# Altium integrated library Infineon RF & Wireless Control.IntLib: 329 symbols (part 10 of 11)
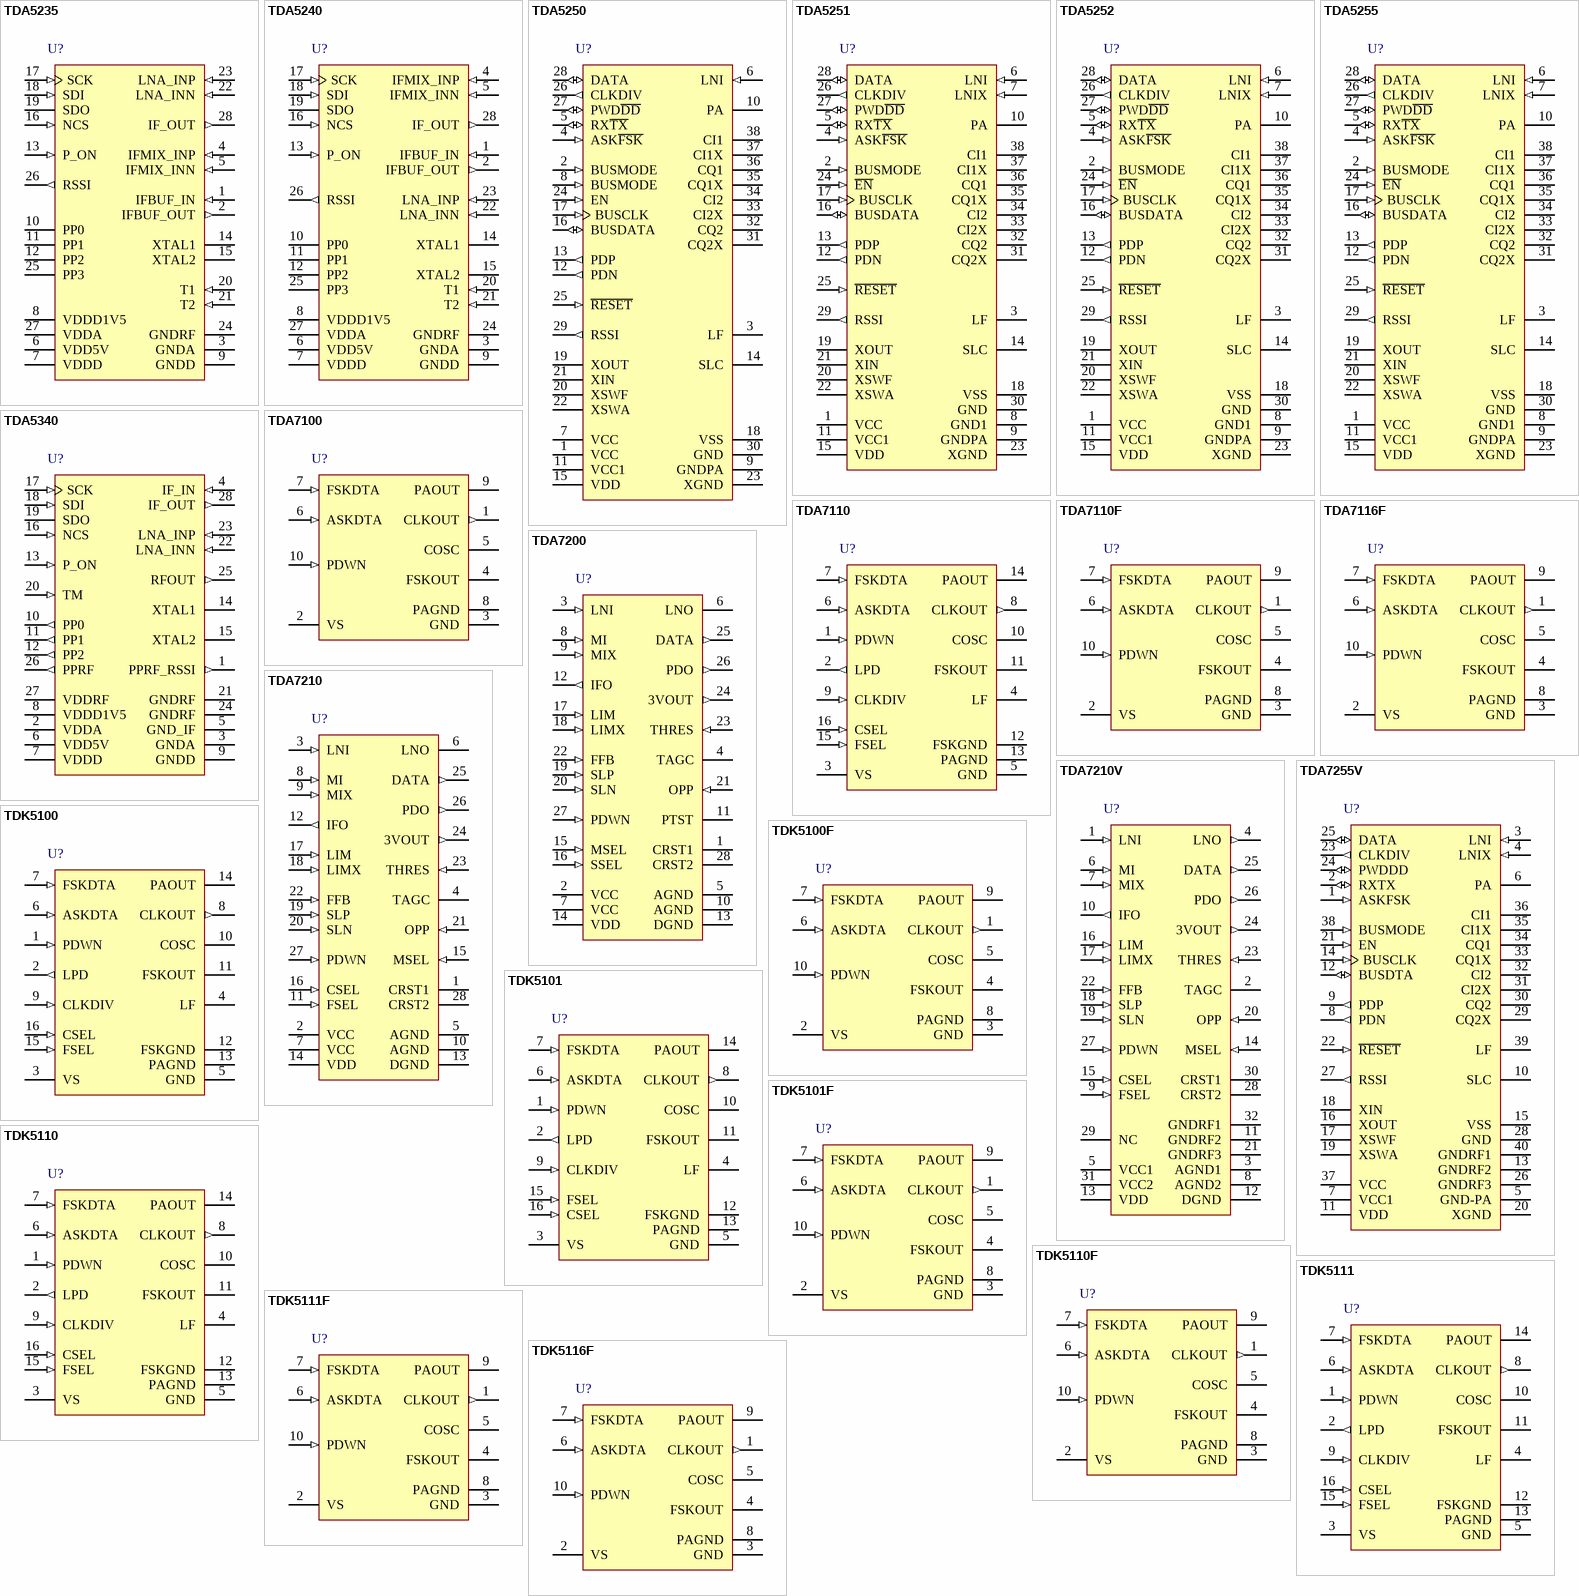
[diagram p18: symbols TDA5235 to TDK5116F]

## TDA5250
designator U?
868 MHz ASK / FSK Wireless Transceiver, -40 to 85 degC, PG-TSSOP-38, Green; Manufacturer: Infineon; PartNumber: TDA5250; Channel Requirements per Band: Single Channel; Frequency Band: 868 MHz; Green: yes; Transmit Power (at 3V): 9 dBm; DatasheetVersion: Rev. 1.7; PackageReference: PG-TSSOP-38; PackageDescription: 38-Pin Plastic (Green) Thin Shrink Small Outline Package, 9.7 x 4.4 mm Body, 0.5 mm Pitch; Supplier 1: Mouser; Supplier Part Number 1: 726-TDA5250; Supplier 2: Digi-Key; Supplier Part Number 2: TDA5250INTR-ND; Supplier 3: Digi-Key; Supplier Part Number 3: TDA5250INCT-ND; Supplier 4: Digi-Key; Supplier Part Number 4: TDA5250INDKR-ND; Group: Transceiver; Halogen-free: yes; Modulation Type: ASK / FSK; Mounting Technology: Surface Mount; ComponentLink1Description: Manufacturer URL; ComponentLink1URL: http://www.infineon.com/; ComponentLink2Description: Datasheet; ComponentLink2URL: http://www.infineon.com/dgdl/TDA5250_DS_V1.7.pdf?folderId=db3a30431689f4420116a096e1db033e&fileId=db3a3043191a246301192e72a7312c03&location=en.Products.Sensors___Wireless_Control.Wireless_Control.Transceiver.DATASHEET.TDA5250_DS_V1.7.pdf; ComponentLink3Description: Package Specification; ComponentLink3URL: http://www.infineon.com/cms/packages/SMD_-_Surface_Mounted_Devices/P-PG-TSSOP/P-PG-TSSOP-38-3.html?__locale=en
footprint INF-PG-TSSOP-38_N (SOP, 38-Leads, Body 9.7x4.4 mm, Pitch 0.5 mm, IPC Medium Density)
footprint INF-PG-TSSOP-38_L (SOP, 38-Leads, Body 9.7x4.4 mm, Pitch 0.5 mm, IPC High Density)
footprint INF-PG-TSSOP-38_M (SOP, 38-Leads, Body 9.7x4.4 mm, Pitch 0.5 mm, IPC Low Density)
pins: 1 VCC (power) "Analog supply(antiparallel diodes between VCC,VCC1,VDD )", 2 BUSMODE (in) "Bus mode selection (I2C/3 wire bus mode selection)", 3 LF "Loop filter and VCO control voltage", 4 ASK~{FSK} (in) "ASK/FSK- mode switch input", 5 RX~{TX} (io) "RX/TX-mode switch input/output", 6 LNI (in) "RF input to differential Low Noise(LNA)", 7 VCC (power) "Analog supply(antiparallel diodes between VCC,VCC1,VDD )", 8 BUSMODE (in) "Bus mode selection (I2C/3 wire bus mode selection)", 9 GNDPA (power) "Ground return for PA output stage", 10 PA (oc) "PA output stage", 11 VCC1 (power) "Supply for LNA and PA", 12 PDN (out) "Output of the negative peak detector", 13 PDP (out) "Output of the positive peakdetector", 14 SLC "Slicer level for the data slicer", 15 VDD (power) "Digital supply", 16 BUSDATA (io) "Bus data in/output", 17 BUSCLK (in) "Bus clock input", 18 VSS (power) "Ground for digital section", 19 XOUT "Crystal oscillator output,can also be used as external reference frequency input", 20 XSWF "FSK modulation switch", 21 XIN, 22 XSWA "ASK modulation/FSK center frequency switch", 23 XGND (power) "Crystal oscillator ground return", 24 EN (in) "3-wire bus enable input", 25 ~{RESET} (in) "Reset of the entire system(to default values),active low", 26 CLKDIV (out) "Clock output", 27 PWD~{DD} (io) "Power down input(acive  high),data detect output(active low)", 28 DATA (io) "TX Data input,RX data output(RX powerdown: pin 28 @ GND)", 29 RSSI (out) "RSSI output", 30 GND (power) "Analog ground", 31 CQ2X "Pin for external capacitor Q-channel stage 2", 32 CQ2 "Q-channel stage 2", 33 CI2X "I-channel stage 2", 34 CI2 "I-channel stage 2", 35 CQ1X "Q-channel stage 1", 36 CQ1 "Q-channel stage 1", 37 CI1X "I-channel stage 1", 38 CI1 "I-channel stage 1"

## TDA5251
designator U?
315 MHz ASK / FSK Wireless Transceiver, -40 to 85 degC, PG-TSSOP-38, Green; Manufacturer: Infineon; PartNumber: TDA5251; Channel Requirements per Band: Single Channel; Frequency Band: 315 MHz; Green: yes; Transmit Power (at 3V): 9 dBm; DatasheetVersion: Rev. 1.1; PackageReference: PG-TSSOP-38; PackageDescription: 38-Pin Plastic (Green) Thin Shrink Small Outline Package, 9.7 x 4.4 mm Body, 0.5 mm Pitch; Supplier 1: Mouser; Supplier Part Number 1: 726-TDA5251; Supplier 2: Digi-Key; Supplier Part Number 2: TDA5251INTR-ND; Supplier 3: Digi-Key; Supplier Part Number 3: TDA5251INCT-ND; Supplier 4: Digi-Key; Supplier Part Number 4: TDA5251INDKR-ND; Group: Transceiver; Halogen-free: yes; Modulation Type: ASK / FSK; Mounting Technology: Surface Mount; ComponentLink1Description: Manufacturer URL; ComponentLink1URL: http://www.infineon.com/; ComponentLink2Description: Datasheet; ComponentLink2URL: http://www.infineon.com/dgdl/TDA5251_DS_V1.1.pdf?folderId=db3a30431689f4420116a096e1db033e&fileId=db3a3043191a246301192e7781502c13&location=en.Products.Sensors___Wireless_Control.Wireless_Control.Transceiver.DATASHEET.TDA5251_DS_V1.1.pdf; ComponentLink3Description: Package Specification; ComponentLink3URL: http://www.infineon.com/cms/packages/SMD_-_Surface_Mounted_Devices/P-PG-TSSOP/P-PG-TSSOP-38-3.html?__locale=en
footprint INF-PG-TSSOP-38_N (SOP, 38-Leads, Body 9.7x4.4 mm, Pitch 0.5 mm, IPC Medium Density)
footprint INF-PG-TSSOP-38_L (SOP, 38-Leads, Body 9.7x4.4 mm, Pitch 0.5 mm, IPC High Density)
footprint INF-PG-TSSOP-38_M (SOP, 38-Leads, Body 9.7x4.4 mm, Pitch 0.5 mm, IPC Low Density)
pins: 1 VCC (power) "Analog supply(antiparallel diodes between VCC,VCC1,VDD)", 2 BUSMODE (in) "Bus mode selection(I2C/3 wire bus mode selection)", 3 LF "Loop filter and VCO control voltage", 4 ASK~{FSK} (in) "ASK/FSK-mode switch input", 5 RX~{TX} (io) "RX/TX-mode switch input/output", 6 LNI (in) "RF input to differential Low Noise Amplifier(LNA)", 7 LNIX (in) "Complementary RF input to differential LNA", 8 GND1 (power) "Ground return for LNA and Power Amplifier(PA) dirver stage", 9 GNDPA (power) "Ground return for PA output stage", 10 PA (oc) "PA output stage", 11 VCC1 (power) "Supply for LNA and PA", 12 PDN (out) "Output of the negative peakdetector", 13 PDP (out) "Output of the positive peakdetector", 14 SLC "Slicer level for the data slicer", 15 VDD (power) "Digital supply", 16 BUSDATA (io) "Bus data in/output", 17 BUSCLK (in) "Bus clock input", 18 VSS (power) "Ground for digital section", 19 XOUT "Crystal oscillator output,can also be used as external reference frequency input", 20 XSWF "FSK modulation switch", 21 XIN, 22 XSWA "ASK modulation/FSK center frequency switch", 23 XGND (power) "Crystal oscillator ground return", 24 ~{EN} (in) "3-wire bus enable input", 25 ~{RESET} (in) "Reset of the entire system (to default values),active low", 26 CLKDIV (out) "Clock output", 27 PWD~{DD} (io) "Power Down input(active high),data detect output(active low)", 28 DATA (io) "TX Data input,RX data output(RX powerdown:pin 28 @ GND)", 29 RSSI (out) "RSSI output", 30 GND (power) "Analog ground", 31 CQ2X "Pin for external Capacitor Q-channel,stage 2", 32 CQ2 "Q-channel,stage 2", 33 CI2X "I-channel,stage 2", 34 CI2 "I-channel,stage 2", 35 CQ1X "Q-channel,stage 1", 36 CQ1 "Q-channel,stage 1", 37 CI1X "I-channel,stage 1", 38 CI1 "I-channel,stage 1"

## TDA5252
designator U?
915 MHz ASK / FSK Wireless Transceiver, -40 to 85 degC, PG-TSSOP-38, Green; Manufacturer: Infineon; PartNumber: TDA5252; Channel Requirements per Band: Single Channel; Frequency Band: 915 MHz; Green: yes; Transmit Power (at 3V): 9 dBm; DatasheetVersion: Rev. 1.1; PackageReference: PG-TSSOP-38; PackageDescription: 38-Pin Plastic (Green) Thin Shrink Small Outline Package, 9.7 x 4.4 mm Body, 0.5 mm Pitch; Supplier 1: Mouser; Supplier Part Number 1: 726-TDA5252; Supplier 2: Digi-Key; Supplier Part Number 2: TDA5252INTR-ND; Supplier 3: Digi-Key; Supplier Part Number 3: TDA5252INCT-ND; Supplier 4: Digi-Key; Supplier Part Number 4: TDA5252INDKR-ND; Group: Transceiver; Halogen-free: yes; Modulation Type: ASK / FSK; Mounting Technology: Surface Mount; ComponentLink1Description: Manufacturer URL; ComponentLink1URL: http://www.infineon.com/; ComponentLink2Description: Datasheet; ComponentLink2URL: http://www.infineon.com/dgdl/TDA5252_DS_V1.1.pdf?folderId=db3a30431689f4420116a096e1db033e&fileId=db3a3043191a246301192e79e8282c1b&location=en.Products.Sensors___Wireless_Control.Wireless_Control.Transceiver.DATASHEET.TDA5252_DS_V1.1.pdf; ComponentLink3Description: Package Specification; ComponentLink3URL: http://www.infineon.com/cms/packages/SMD_-_Surface_Mounted_Devices/P-PG-TSSOP/P-PG-TSSOP-38-3.html?__locale=en
footprint INF-PG-TSSOP-38_N (SOP, 38-Leads, Body 9.7x4.4 mm, Pitch 0.5 mm, IPC Medium Density)
footprint INF-PG-TSSOP-38_L (SOP, 38-Leads, Body 9.7x4.4 mm, Pitch 0.5 mm, IPC High Density)
footprint INF-PG-TSSOP-38_M (SOP, 38-Leads, Body 9.7x4.4 mm, Pitch 0.5 mm, IPC Low Density)
pins: 1 VCC (power) "Analog supply (antiparallel diodes between VCC, VCC1, VDD).", 2 BUSMODE (in) "Bus mode selection (I2C/3 wire bus mode selection).", 3 LF "Loop filter and VCO control voltage.", 4 ASK~{FSK} (in) "ASK/FSK-mode switch input.", 5 RX~{TX} (io) "RX/TX-mode switch input/output", 6 LNI (in) "RF input to differential Low Noise Amplifier (LNA).", 7 LNIX (in) "Complementary RF input to differential LNA.", 8 GND1 (power) "Ground return for LNA and Power Amplifier (PA) driver stage.", 9 GNDPA (power) "Ground return for PA output stage.", 10 PA (oc) "PA output stage.", 11 VCC1 (power) "Supply for LNA and PA.", 12 PDN (out) "Outpur of the negative peak detector.", 13 PDP (out) "Output of the positive peakdetector.", 14 SLC "Slicer level for the data slicer.", 15 VDD (power) "Digital supply.", 16 BUSDATA (io) "Bus data in/output.", 17 BUSCLK (in) "Bus clock input.", 18 VSS (power) "Ground for digital section.", 19 XOUT "Crystal oscillator output, can also be used as external reference frequency input.", 20 XSWF "FSK modulation switch.", 21 XIN "FSK modulation switch.", 22 XSWA "ASK modulation/FSK center frequency switch.", 23 XGND (power) "Crystal oscillator ground return.", 24 ~{EN} (in) "3-wire bus enable input.", 25 ~{RESET} (in) "Reset of the entire system (to default values), active low.", 26 CLKDIV (out) "Clock output.", 27 PWD~{DD} (io) "Power Down input (active high), data detect output (active low).", 28 DATA (io) "TX Data input, RX data output (RX powerdown: pin 28 @ GND).", 29 RSSI (out) "RSSI output.", 30 GND (power) "Analog ground.", 31 CQ2X "Pin for external Capacitor Q-channel, stage 2.", 32 CQ2 "Q-channel, stage 2", 33 CI2X "I-channel, stage 2", 34 CI2 "I-channel, stage 1", 35 CQ1X "Q-channel, stage 1", 36 CQ1 "Q-channel, stage 1", 37 CI1X "I-channel, stage 1", 38 CI1 "I-channel, stage 1"

## TDA5255
designator U?
434 MHz ASK / FSK Wireless Transceiver, -40 to 85 degC, PG-TSSOP-38, Green; Manufacturer: Infineon; PartNumber: TDA5255; Channel Requirements per Band: Single Channel; Frequency Band: 434 MHz; Green: yes; Transmit Power (at 3V): 9 dBm; DatasheetVersion: Rev. 1.2; PackageReference: PG-TSSOP-38; PackageDescription: 38-Pin Plastic (Green) Thin Shrink Small Outline Package, 9.7 x 4.4 mm Body, 0.5 mm Pitch; Supplier 1: Mouser; Supplier Part Number 1: 726-TDA5255; Supplier 2: Digi-Key; Supplier Part Number 2: TDA5255INTR-ND; Supplier 3: Digi-Key; Supplier Part Number 3: TDA5255INCT-ND; Supplier 4: Digi-Key; Supplier Part Number 4: TDA5255INDKR-ND; Group: Transceiver; Halogen-free: yes; Modulation Type: ASK / FSK; Mounting Technology: Surface Mount; ComponentLink1Description: Manufacturer URL; ComponentLink1URL: http://www.infineon.com/; ComponentLink2Description: Datasheet; ComponentLink2URL: http://www.infineon.com/dgdl/TDA5255_V1+21.pdf?folderId=db3a30431689f4420116a096e1db033e&fileId=db3a304317a7483601181d4f63db1753; ComponentLink3Description: Package Specification; ComponentLink3URL: http://www.infineon.com/cms/packages/SMD_-_Surface_Mounted_Devices/P-PG-TSSOP/P-PG-TSSOP-38-3.html?__locale=en
footprint INF-PG-TSSOP-38_N (SOP, 38-Leads, Body 9.7x4.4 mm, Pitch 0.5 mm, IPC Medium Density)
footprint INF-PG-TSSOP-38_L (SOP, 38-Leads, Body 9.7x4.4 mm, Pitch 0.5 mm, IPC High Density)
footprint INF-PG-TSSOP-38_M (SOP, 38-Leads, Body 9.7x4.4 mm, Pitch 0.5 mm, IPC Low Density)
pins: 1 VCC (power) "Analog supply (antiparallel diodes between VCC,VCC1,VDD)", 2 BUSMODE (in) "Bus mode selection (I2C/3 wire bus mode selection)", 3 LF "Loop filter and VCO control voltage", 4 ASK~{FSK} (in) "ASK/FSK- mode switch input", 5 RX~{TX} (io) "RX/TX-mode switch input/output", 6 LNI (in) "RF input to differential Low Noise Amplifier (LNA)", 7 LNIX (in) "Complementary RF input to differential LNA", 8 GND1 (power) "Ground return for LNA and Power Amplifier (PA) dirver stage", 9 GNDPA (power) "Ground return for PA output stage", 10 PA (oc) "PA output stage", 11 VCC1 (power) "Supply for LNA and  PA", 12 PDN (out) "Output for the negative peak detector", 13 PDP (out) "Output for the positive peak detector", 14 SLC "Slicer level for the data slicer", 15 VDD (power) "Digital supply; A 10ohm serial resistor in the VDD supply line is strongly recommended; see also Section 4.4", 16 BUSDATA (io) "Bus data in/output", 17 BUSCLK (in) "Bus clock input", 18 VSS (power) "Ground for digital section", 19 XOUT "Crystal oscillator output, can also be used as external reference frequency input", 20 XSWF "FSK modulation switch", 21 XIN, 22 XSWA "ASK modulation/FSK center frequency switch", 23 XGND (power) "Crystal oscillator ground return", 24 ~{EN} (in) "3-wire bus enable input", 25 ~{RESET} (in) "Reset of the entire system (to default values), active low", 26 CLKDIV (out) "Clock output", 27 PWD~{DD} (io) "Power Down input (active high), data detect output (active low)", 28 DATA (io) "TX Data input,RX data output (RX powerdown: pin 28 @ GND)", 29 RSSI (out) "RSSI output", 30 GND (power) "Analog ground", 31 CQ2X "Pin for external Capacitor Q-channel,stage 2", 32 CQ2 "Q-channel,stage 2", 33 CI2X "I-channel,stage 2", 34 CI2 "I-channel,stage 2", 35 CQ1X "Q-channel,stage 1", 36 CQ1 "Q-channel,stage 1", 37 CI1X "I-channel,stage 1", 38 CI1 "I-channel,stage 1"

## TDA5340
designator U?
High Sensitivity Multi-Channel Transceiver, -40 to 110 degC, PG-TSSOP-28, Green; Manufacturer: Infineon; PartNumber: TDA5340; Frequency Band: 315 MHz, 434 MHz, 470 MHz, 868 MHz, 915 MHz, 959 MHz; Green: yes; Group: SmartLEWIS TRX to Multi-channel TRX with Digital Baseband Processing; Modulation Type: ASK / FSK / GSFK; Transmit Power (at 3V): 14 dBm; DatasheetVersion: Rev. 1.2; PackageReference: PG-TSSOP-28; PackageDescription: 28-Pin Plastic (Green) Thin Shrink Small Outline Package, 9.7 x 4.4 mm Body, 0.65 mm Pitch; Channel Requirements per Band: Multi-Channel; Halogen-free: yes; Mounting Technology: Surface Mount; ComponentLink1Description: Manufacturer URL; ComponentLink1URL: http://www.infineon.com/; ComponentLink2Description: Datasheet; ComponentLink2URL: http://www.infineon.com/dgdl/TDA5340_DS_V1.2.pdf?folderId=db3a3043191a246301192dd387ea2ae3&fileId=db3a30433408410401340ea9a6a4300a; ComponentLink3Description: Package Specification; ComponentLink3URL: http://www.infineon.com/cms/packages/SMD_-_Surface_Mounted_Devices/P-PG-TSSOP/P-PG-TSSOP-28-1x_-4x_-8.html?__locale=en
footprint INF-PG-TSSOP-28_N (SOP, 28-Leads, Body 9.7x4.4 mm, Pitch 0.65 mm, IPC Medium Density)
footprint INF-PG-TSSOP-28_L (SOP, 28-Leads, Body 9.7x4.4 mm, Pitch 0.65 mm, IPC High Density)
footprint INF-PG-TSSOP-28_M (SOP, 28-Leads, Body 9.7x4.4 mm, Pitch 0.65 mm, IPC Low Density)
pins: 1 PPRF_RSSI (out) "Analog output Digital output with weak driver capability, always in 3V domain CLK_OUT, RX_RUN, NINT, ANT_EXTSW1, ANT_EXTSW1, DATA, DATA_MATCHFIL, CH_DATA, CH_STR, RXD, RXSTR, TXSTR and TRISTATE are programmable via SFR (See Datasheet)", 2 VDDA (power) "Analog input Analog supply", 3 GNDA (power) "Analog Ground", 4 IF_IN (in) "Analog input IF mixer input", 5 GND_IF (power) "Analog Ground", 6 VDD5V (power) "Analog input 5 Volt supply input", 7 VDDD (power) "Analog input digital supply input", 8 VDDD1V5 (power) "Analog output 1.5V regulator", 9 GNDD (power) "Digital ground", 10 PP0 (out) "Digital output CLK_OUT, RX_RUN, NINT, ANT_EXTSW1, ANT_EXTSW1, DATA, DATA_MATCHFIL, CH_DATA, CH_STR, RXD, RXSTR, TXSTR and TRISTATE are programmable via SFR default: CLK_OUT", 11 PP1 (out) "Digital output CLK_OUT, RX_RUN, NINT, ANT_EXTSW1, ANT_EXTSW1, DATA, DATA_MATCHFIL, CH_DATA, CH_STR, RXD, RXSTR, TXSTR and TRISTATE are programmable via SFR default: DATA", 12 PP2 (out) "Digital output CLK_OUT, RX_RUN, NINT, ANT_EXTSW1, ANT_EXTSW1, DATA, DATA_MATCHFIL, CH_DATA, CH_STR, RXD, RXSTR, TXSTR and TRISTATE are programmable via SFR default: NINT", 13 P_ON (in) "Digital input power-on reset", 14 XTAL1 "Analog input crystal oscillator input", 15 XTAL2 "Analog output crystal oscillator output", 16 NCS (in) "Digital input SPI Not Chip select", 17 SCK (in) "Digital input SPI clock", 18 SDI (in) "Digital input SPI data in", 19 SDO (hiz) "Digital output SPI data out", 20 TM (in) "Digital input connect to digital ground", 21 GNDRF (power) "Analog ground", 22 LNA_INN (in) "Analog input - RF input", 23 LNA_INP (in) "Analog input +RF input", 24 GNDRF (power) "Analog ground", 25 RFOUT (out) "Analog output power amplifier output", 26 PPRF (out) "Digital output always in 3V domain CLK_OUT, RX_RUN, NINT, ANT_EXTSW1, ANT_EXTSW1, DATA, DATA_MATCHFIL, CH_DATA, CH_STR, RXD, RXSTR, TXSTR and TRISTATE are programmable via SFR default: TRISTATE", 27 VDDRF (power) "Analog input RF supply", 28 IF_OUT (out) "Analog output Mixer output"

## TDA7100
designator U?
434 MHz ASK / FSK Transmitter, -20 to 70 degC, PG-TSSOP-10, Green; Manufacturer: Infineon; PartNumber: TDA7100; Channel Requirements per Band: Single Channel; Frequency Band: 434 MHz; Green: yes; Transmit Power (at 3V): 5 dBm; DatasheetVersion: Rev. 1.0; PackageReference: PG-TSSOP-10; PackageDescription: 10-Pin Plastic (Green) Thin Shrink Small Outline Package, 3 x 3 mm Body, 0.5 mm Pitch; Supplier 1: Mouser; Supplier Part Number 1: 726-TDA7100; Supplier 2: Digi-Key; Supplier Part Number 2: TDA7100INTR-ND; Supplier 3: Digi-Key; Supplier Part Number 3: TDA7100INCT-ND; Supplier 4: Digi-Key; Supplier Part Number 4: TDA7100INDKR-ND; Group: Transmitter; Modulation Type: ASK / FSK; Mounting Technology: Surface Mount; ComponentLink1Description: Manufacturer URL; ComponentLink1URL: http://www.infineon.com/; ComponentLink2Description: Datasheet; ComponentLink2URL: http://www.infineon.com/dgdl/TDA7100_V1.pdf?folderId=db3a304313d846880113dd9752130268&fileId=db3a30431400ef68011402db35860081&location=en.Products.Sensors___Wireless_Control.Wireless_Control.Transmitter.DATASHEET.TDA7100_V1.pdf; ComponentLink3Description: Package Specification; ComponentLink3URL: http://www.infineon.com/cms/packages/SMD_-_Surface_Mounted_Devices/P-PG-TSSOP/P-PG-TSSOP-10-1x_-3x_-5.html?__locale=en
footprint INF-PG-TSSOP-10_N (SOP, 10-Leads, Body 3x3 mm, Pitch 0.5 mm, IPC Medium Density)
footprint INF-PG-TSSOP-10_L (SOP, 10-Leads, Body 3x3 mm, Pitch 0.5 mm, IPC High Density)
footprint INF-PG-TSSOP-10_M (SOP, 10-Leads, Body 3x3 mm, Pitch 0.5 mm, IPC Low Density)
pins: 1 CLKOUT (out) "Clock output to supply an external device. An external pull-up resistor has to be added in accordance to the driving requirements of the external device. The clock frequency is 847.5 kHz.", 2 VS (power) "This pin is the positive supply of the transmitter electronics. An RF bypass capacitor should be connected directly to this pin and returned to GND (pin 3) as short as possible.", 3 GND (power) "General ground connection.", 4 FSKOUT (hiz) "This pin is connected to a switch to GND (pin 3). The switch is closed when the signal at FSKDTA (pin 7) is in a logic low state. The switch is open when the signal at FSKDTA (pin 7) is in a logic hifh state. FSKOUT can (See Datasheet)", 5 COSC "This pin is connected to the reference oscillator circuit. The reference oscillator is working as a negative impedance converter. It presents a negative resistance in series to an inductance at the COSC pin.", 6 ASKDTA (in) "Digital amplitude modulation can be imparted to the Power Amplifier through this pin. A logic high (ASKDTA > 1.5 V or open) enables the Power Amplifier. A logic low (ASKDTA < 0.5 V) disables the Power Amplifier.", 7 FSKDTA (in) "Digital frequency modulation can be imparted to the Xtal Oscillator by this pin. The VCO-frequency varies in accordance to the frequency of the reference oscillator. A logic high (FSKDTA > 1.5 V or open) sets the FSK switch (See Datasheet)", 8 PAGND (power) "Ground connection of the power amplifier. The RF ground return path of the power amplifier output PAOUT (pin 9) has to be concentrated to this pin.", 9 PAOUT (oc) "RF output pin of the transmitter. A DC path to the positive supply VS has to be supplied by the antenna matching network.", 10 PDWN (in) "Disable pin for the complete transmitter circuit. A logic low (PDWN < 0.7 V) turns off all transmitter fuctions. PDWN input will be pulled up by 40 uA internally by either setting FSKDTA or ASKDTA to a logic high-state."

## TDA7110
designator U?
868 / 433 MHz ASK / FSK Transmitter, -40 to 85 degC, PG-TSSOP-16, Green; Manufacturer: Infineon; PartNumber: TDA7110; Channel Requirements per Band: Single Channel; Frequency Band: 434 MHz, 868 MHz; Green: yes; Transmit Power (at 3V): 10 dBm; DatasheetVersion: Rev. 1.0; PackageReference: PG-TSSOP-16; PackageDescription: 16-Pin Plastic (Green) Thin Shrink Small Outline Package, 5 x 4.4 mm Body, 0.65 mm Pitch; Supplier 1: Mouser; Supplier Part Number 1: 726-TDA7110; Supplier 2: Digi-Key; Supplier Part Number 2: TDA7110INTR-ND; Supplier 3: Digi-Key; Supplier Part Number 3: TDA7110INCT-ND; Supplier 4: Digi-Key; Supplier Part Number 4: TDA7110INDKR-ND; Group: Transmitter; Halogen-free: yes; Modulation Type: ASK / FSK; Mounting Technology: Surface Mount; ComponentLink1Description: Manufacturer URL; ComponentLink1URL: http://www.infineon.com/; ComponentLink2Description: Datasheet; ComponentLink2URL: http://www.infineon.com/dgdl/TDA7110_DS_V1.pdf?folderId=db3a30431689f4420116a096e1db033e&fileId=db3a30431ddc9372011e3a83c6935edd&location=en.Products.Sensors___Wireless_Control.Wireless_Control.Transmitter.DATASHEET.TDA7110_DS_V1.pdf; ComponentLink3Description: Package Specification; ComponentLink3URL: http://www.infineon.com/cms/packages/SMD_-_Surface_Mounted_Devices/P-PG-TSSOP/P-PG-TSSOP-16-1.html?__locale=en
footprint INF-PG-TSSOP-16_N (SOP, 16-Leads, Body 5x4.4 mm, Pitch 0.65 mm, IPC Medium Density, IPC Medium Density)
footprint INF-PG-TSSOP-16_L (SOP, 16-Leads, Body 5x4.4 mm, Pitch 0.65 mm, IPC High Density, IPC High Density)
footprint INF-PG-TSSOP-16_M (SOP, 16-Leads, Body 5x4.4 mm, Pitch 0.65 mm, IPC High Density, IPC Low Density)
pins: 1 PDWN (in) "Disable pin for the complete transmitter circuit.A logic low (PDWN < 0.7 V) turns off alltransmitter functions.A logic high (PDWN > 1.5 V) gives access toall transmitter functions.PDWN input will be pulled up by 40 uA (See Datasheet)", 2 LPD (out) "This pin provides an output indicating the low-voltage state of the supply voltage VS.VS < 2.15 V will set LPD to the low-state. An internal pull-up current of 40 uA gives the output a high-state at supply voltages above 2.(See Datasheet)", 3 VS (power) "This pin is the positive supply of the transmitterelectronics.An RF bypass capacitor should be connected directly to this pin and returned to GND (pin 5) as short as possible", 4 LF "Output of the charge pump and input of theVCO control voltage.The loop bandwidth of the PLL is 150 kHzwhen only the internal loop filter is used.The loop bandwidth may be reduced byapplying an external RC network (See Datasheet)", 5 GND (power) "General ground connection.", 6 ASKDTA (in) "Digital amplitude modulation can beimparted to the Power Amplifier through this pin.A logic high (ASKDTA > 1.5 V or open)enables the Power Amplifier.A logic low (ASKDTA < 0.5 V)disables the Power Amplifier.7", 7 FSKDTA (in) "Digital frequency modulation can beimparted to the Xtal Oscillator by this pin.The VCO-frequency varies in accordance tothe frequency of the reference oscillator.A logic high (FSKDTA > 1.5V or open)sets the FSK switch to a (See Datasheet)", 8 CLKOUT (out) "Clock output to supply an external device.An external pull-up resistor has to be addedin accordance to the driving requirements of the external device.A clock frequency of 3.39 MHz is selected by a logic low at CLKDIV input (See Datasheet)", 9 CLKDIV (in) "This pin is used to select the desired clock division rate for the CLKOUT signal.A logic low (CLKDIV < 0.2 V) applied to this pin selects the 3.39 MHz output signal at CLKOUT (pin 8).A logic high (CLKDIV open) applied to (See Datasheet)", 10 COSC "This pin is connected to the reference oscillator circuit.The reference oscillator is working as a negative impedance converter. It presents a negative resistance in series to an inductance at the COSC pin.", 11 FSKOUT (hiz) "This pin is connected to a switch to FSKGND (pin 12).The switch is closed when the signal at FSKDTA (pin 7) is in a logic low state.The switch is open when the signal at FSKDTA (pin 7) is in a logic high state.FSKOUT can (See Datasheet)", 12 FSKGND (power) "Ground connection for FSK modulation output FSKOUT.", 13 PAGND (power) "Ground connection of the power amplifier.The RF ground return path of the power amplifier output PAOUT (pin 14) has to be concentrated to this pin.", 14 PAOUT (oc) "RF output pin of the transmitter.A DC path to the positive supply VS has to be supplied by the antenna matching network.15", 15 FSEL (in) "This pin is used to select the desired transmitter frequency.A logic low (FSEL < 0.5 V) applied to this pin sets the transmitter to the 433 MHz frequency range.A logic high (FSEL open) applied to this pinsets the transmitter (See Datasheet)", 16 CSEL (in) "This pin is used to select the desired reference frequency.A logic low (CSEL < 0.2 V) applied to this pin sets the internal frequency divider to accept a reference frequency of 6.78 MHz.A logic high (CSEL open) applied to (See Datasheet)"

## TDA7110F
designator U?
434 MHz ASK / FSK Transmitter, -40 to 85 degC, PG-TSSOP-10, Green; Manufacturer: Infineon; PartNumber: TDA7110F; Channel Requirements per Band: Single Channel; Frequency Band: 434 MHz; Green: yes; Transmit Power (at 3V): 10 dBm; DatasheetVersion: Rev. 1.0; PackageReference: PG-TSSOP-10; PackageDescription: 10-Pin Plastic (Green) Thin Shrink Small Outline Package, 3 x 3 mm Body, 0.5 mm Pitch; Supplier 1: Mouser; Supplier Part Number 1: 726-TDA7110F; Supplier 2: Digi-Key; Supplier Part Number 2: TDA7110F-ND; Group: Transmitter; Modulation Type: ASK / FSK; Mounting Technology: Surface Mount; ComponentLink1Description: Manufacturer URL; ComponentLink1URL: http://www.infineon.com/; ComponentLink2Description: Datasheet; ComponentLink2URL: http://www.infineon.com/dgdl/TDA7110F_DS_V1.0.pdf?folderId=db3a30431689f4420116a096e1db033e&fileId=db3a30431ff988150120603ffcc26153; ComponentLink3Description: Package Specification; ComponentLink3URL: http://www.infineon.com/cms/packages/SMD_-_Surface_Mounted_Devices/P-PG-TSSOP/P-PG-TSSOP-10-1x_-3x_-5.html?__locale=en
footprint INF-PG-TSSOP-10_N (SOP, 10-Leads, Body 3x3 mm, Pitch 0.5 mm, IPC Medium Density)
footprint INF-PG-TSSOP-10_L (SOP, 10-Leads, Body 3x3 mm, Pitch 0.5 mm, IPC High Density)
footprint INF-PG-TSSOP-10_M (SOP, 10-Leads, Body 3x3 mm, Pitch 0.5 mm, IPC Low Density)
pins: 1 CLKOUT (out) "Clock output to supply an external  device.  An external pull-up resistor has to  be added  in accordance to the  driving requirements of the  external device.  The clock frequency is 847.5 kHz.", 2 VS (power) "This pin is the positive supply of the transmitter electronics. An RF bypass capacitor should be connected directly to this pin and returned to GND (pin 3) as short as possible.", 3 GND (power) "General ground connection.", 4 FSKOUT (hiz) "This pin is connected to a switch to  GND (pin 3).  The switch is closed when the  signal at FSKDTA (pin 7) is in a  logic low state.  The switch is open when the signal  at FSKDTA (pin 7) is in a logic high  state. FSKOUT (See Datasheet)", 5 COSC "This pin is connected to the  reference oscillator circuit.  The reference oscillator is working  as a negative impedance  converter. It presents a negative  resistance in series to an  inductance at the COSC pin.", 6 ASKDTA (in) "Digital amplitude modulation can  be imparted to the Power Amplifier  through this pin. A logic high (ASKDTA > 1.5 V or  open) enables the Power  Amplifier.  A logic low (ASKDTA < 0.5 V)  disables the Power Amplifier.", 7 FSKDTA (in) "Digital frequency modulation can be imparted to the Xtal Oscillator by this pin. The VCO-frequency varies in accordance to the frequency of the reference oscillator.A logic high (FSKDTA > 1.5V or open) sets the FSK switch to (See Datasheet)", 8 PAGND (power) "Ground connection of the power amplifier.The RF ground return path of the power amplifier output PAOUT (pin 9) has to be concentrated to this pin.", 9 PAOUT (oc) "RF output pin of the transmitter. A DC path to the positive supply VS has to be supplied by the antenna matching network.", 10 PDWN (in) "Disable pin for the complete transmitter circuit.A logic low (PDWN < 0.7 V)  turns off all transmitter functions.A logic high (PDWN > 1.5 V) gives access to all transmitter functions.PDWN input will be pulled up by 40 µA (See Datasheet)"

## TDA7116F
designator U?
868 MHz ASK / FSK Transmitter, -40 to 85 degC, PG-TSSOP-10, Green; Manufacturer: Infineon; PartNumber: TDA7116F; Channel Requirements per Band: Single Channel; Frequency Band: 868 MHz; Green: yes; Transmit Power (at 3V): 10 dBm; DatasheetVersion: Rev. 1.0; PackageReference: PG-TSSOP-10; PackageDescription: 10-Pin Plastic (Green) Thin Shrink Small Outline Package, 3 x 3 mm Body, 0.5 mm Pitch; Supplier 1: Mouser; Supplier Part Number 1: 726-TDA7116F; Supplier 2: Digi-Key; Supplier Part Number 2: TDA7116F-ND; Group: Transmitter; Modulation Type: ASK / FSK; Mounting Technology: Surface Mount; ComponentLink1Description: Manufacturer URL; ComponentLink1URL: http://www.infineon.com/; ComponentLink2Description: Datasheet; ComponentLink2URL: http://www.infineon.com/dgdl/TDA7116F_DS_V1.0.pdf?folderId=db3a30431689f4420116a096e1db033e&fileId=db3a30431ff98815012060531ca1616d; ComponentLink3Description: Package Specification; ComponentLink3URL: http://www.infineon.com/cms/packages/SMD_-_Surface_Mounted_Devices/P-PG-TSSOP/P-PG-TSSOP-10-1x_-3x_-5.html?__locale=en
footprint INF-PG-TSSOP-10_N (SOP, 10-Leads, Body 3x3 mm, Pitch 0.5 mm, IPC Medium Density)
footprint INF-PG-TSSOP-10_L (SOP, 10-Leads, Body 3x3 mm, Pitch 0.5 mm, IPC High Density)
footprint INF-PG-TSSOP-10_M (SOP, 10-Leads, Body 3x3 mm, Pitch 0.5 mm, IPC Low Density)
pins: 1 CLKOUT (out) "Clock output to supply an external device. An external pull-up resistor has to be added in accordance to the driving requirements of the external device. The clock frequency is 847.5 kHz.", 2 VS (power) "This pin is the positive supply of the transmitter electronics. An RF bypass capacitor should be connected directly to this pin and returned to GND (pin 3) as short as possible.", 3 GND (power) "General ground connection.", 4 FSKOUT (hiz) "This pin is connected to a switch to GND (pin 3). The switch is closed when the signal at FSKDTA (pin 7) is in a logic low state. The switch is open when the signal at FSKDTA (pin 7) is in a logic high state. FSKOUT can (See Datasheet)", 5 COSC "This pin is connected to the reference oscillator circuit. The reference oscillator is working as a negative impedance converter. It presents a negative resistance in series to an inductance at the COSC pin.", 6 ASKDTA (in) "Digital amplitude modulation can be imparted to the Power Amplifier through this pin. A logic high (ASKDTA > 1.5 V or open) enables the Power Amplifier. A logic low (ASKDTA < 0.5 V) disables the Power Amplifier.", 7 FSKDTA (in) "Digital frequency modulation can be imparted to the Xtal Oscillator by this pin. The VCO-frequency varies in accordance to the frequency of the reference oscillator. A logic high (FSKDTA > 1.5V or open) sets the FSK switch (See Datasheet)", 8 PAGND (power) "Ground connection of the power amplifier. The RF ground return path of the power amplifier output PAOUT (pin 9) has to be concentrated to this pin.", 9 PAOUT (oc) "RF output pin of the transmitter. A DC path to the positive supply VS has to be supplied by the antenna matching network.", 10 PDWN (in) "Disable pin for the complete transmitter circuit. A logic low (PDWN < 0.7 V) turns off all transmitter functions. A logic high (PDWN > 1.5 V) gives access to all transmitter functions. PDWN input will be pulled up by 40 uA (See Datasheet)"

## TDA7200
designator U?
ASK / FSK Single Conversion Receiver, -20 to 70 degC, TSSOP-28, Green; Manufacturer: Infineon; PartNumber: TDA7200; Channel Requirements per Band: Single-Channel; Digital Baseband / Autonomous RX: no; Frequency Band: 434 MHz; Green: yes; DatasheetVersion: Rev. 1.0; PackageReference: PG-TSSOP-28; PackageDescription: 28-Pin Plastic (Green) Thin Shrink Small Outline Package, 9.7 x 4.4 mm Body, 0.65 mm Pitch; Supplier 1: Mouser; Supplier Part Number 1: 726-TDA7200; Supplier 2: Digi-Key; Supplier Part Number 2: TDA7200INTR-ND; Supplier 3: Digi-Key; Supplier Part Number 3: TDA7200INCT-ND; Supplier 4: Digi-Key; Supplier Part Number 4: TDA7200INDKR-ND; Group: Receiver; Halogen-free: yes; Modulation Type: ASK / FSK; Mounting Technology: Surface Mount; ComponentLink1Description: Manufacturer URL; ComponentLink1URL: http://www.infineon.com/; ComponentLink2Description: Datasheet; ComponentLink2URL: http://www.infineon.com/dgdl/TDA7200_DS_V1.pdf?folderId=db3a30431689f4420116a096e1db033e&fileId=db3a3043191a24630119291a25ba7f9b&location=en.Products.Sensors___Wireless_Control.Wireless_Control.Receiver.DATASHEET.TDA7200_DS_V1.pdf; ComponentLink3Description: Package Specification; ComponentLink3URL: http://www.infineon.com/cms/packages/SMD_-_Surface_Mounted_Devices/P-PG-TSSOP/P-PG-TSSOP-28-1x_-4x_-8.html?__locale=en
footprint INF-PG-TSSOP-28_N (SOP, 28-Leads, Body 9.7x4.4 mm, Pitch 0.65 mm, IPC Medium Density)
footprint INF-PG-TSSOP-28_L (SOP, 28-Leads, Body 9.7x4.4 mm, Pitch 0.65 mm, IPC High Density)
footprint INF-PG-TSSOP-28_M (SOP, 28-Leads, Body 9.7x4.4 mm, Pitch 0.65 mm, IPC Low Density)
pins: 1 CRST1 "External Crystal Connector 1", 2 VCC (power) "5V Supply", 3 LNI (in) "LNA Input", 4 TAGC "AGC TIME Constant Control", 5 AGND (power) "Analogue Ground Return", 6 LNO (oc) "LNA Output", 7 VCC (power) "5V Supply", 8 MI (in) "Mixer Input", 9 MIX (in) "Complementary Mixer Input", 10 AGND (power) "Analogue Ground Return", 11 PTST "has to be left open", 12 IFO (out) "10.7 MHZ IF Mixer Output", 13 DGND (power) "Digital Ground Return", 14 VDD (power) "5V Supply(PLL Counter Circuity)", 15 MSEL (in) "ASK/FSK Modulation Format Sector", 16 SSEL (in) "Data Slicer Reference Level Sector", 17 LIM (in) "Limiter Input", 18 LIMX (in) "Complementary Limiter Input", 19 SLP (in) "Data Slicer Positive Input", 20 SLN (in) "Data Slicer Negative Input", 21 OPP (in) "OpAmp Noninverting Input", 22 FFB (in) "Data Filter Feedback Pin", 23 THRES (in) "AGC Threshold Input", 24 3VOUT (out) "3V Reference Output", 25 DATA (out) "Data Output", 26 PDO (out) "Peak Detector Output", 27 PDWN (in) "Power Down Input", 28 CRST2 "External Crystal Connector 2"

## TDA7210
designator U?
ASK / FSK Single Conversion Receiver, -40 to 85 degC, TSSOP-28, Green; Manufacturer: Infineon; PartNumber: TDA7210; Channel Requirements per Band: Single-Channel; Digital Baseband / Autonomous RX: no; Frequency Band: 434 MHz, 868 MHz; Green: yes; DatasheetVersion: Rev. 1.0; PackageReference: PG-TSSOP-28; PackageDescription: 28-Pin Plastic (Green) Thin Shrink Small Outline Package, 9.7 x 4.4 mm Body, 0.65 mm Pitch; Supplier 1: Mouser; Supplier Part Number 1: 726-TDA7210; Supplier 2: Digi-Key; Supplier Part Number 2: TDA7210INTR-ND; Supplier 3: Digi-Key; Supplier Part Number 3: TDA7210INCT-ND; Supplier 4: Digi-Key; Supplier Part Number 4: TDA7210INDKR-ND; Group: Receiver; Halogen-free: yes; Modulation Type: ASK / FSK; Mounting Technology: Surface Mount; ComponentLink1Description: Manufacturer URL; ComponentLink1URL: http://www.infineon.com/; ComponentLink2Description: Datasheet; ComponentLink2URL: http://www.infineon.com/dgdl/TDA7210_DS_V1.pdf?folderId=db3a30431689f4420116a096e1db033e&fileId=db3a30431ddc9372011e3a7bdd885ecf&location=en.Products.Sensors___Wireless_Control.Wireless_Control.Receiver.DATASHEET.TDA7210_DS_V1.pdf; ComponentLink3Description: Package Specification; ComponentLink3URL: http://www.infineon.com/cms/packages/SMD_-_Surface_Mounted_Devices/P-PG-TSSOP/P-PG-TSSOP-28-1x_-4x_-8.html?__locale=en
footprint INF-PG-TSSOP-28_N (SOP, 28-Leads, Body 9.7x4.4 mm, Pitch 0.65 mm, IPC Medium Density)
footprint INF-PG-TSSOP-28_L (SOP, 28-Leads, Body 9.7x4.4 mm, Pitch 0.65 mm, IPC High Density)
footprint INF-PG-TSSOP-28_M (SOP, 28-Leads, Body 9.7x4.4 mm, Pitch 0.65 mm, IPC Low Density)
pins: 1 CRST1 "External Crystal Connector 1", 2 VCC (power) "5V Supply", 3 LNI (in) "LNA Input", 4 TAGC "AGC Time Constant  Control", 5 AGND (power) "Analogue Ground Return", 6 LNO (oc) "LNA Output", 7 VCC (power) "5V Supply", 8 MI (in) "Mixer Input", 9 MIX (in) "Complementary Mixer Input", 10 AGND (power) "Analogue Ground Return", 11 FSEL (in) "868/434 MHz Operating Frequency Selector", 12 IFO (out) "10.7 MHz IF Mixer Output", 13 DGND (power) "Digital Ground Return", 14 VDD (power) "5V Supply (PLL Counter Circuitry)", 15 MSEL (in) "ASK/FSK Modulation Format  Selector", 16 CSEL (in) "6.xx or 13.xx MHz Quartz  Selector", 17 LIM (in) "Limiter Input", 18 LIMX (in) "Complementary Limiter Input", 19 SLP (in) "Data Slicer Positive Input", 20 SLN (in) "Data Slicer Negative Input", 21 OPP (in) "OpAmp Noninverting Input", 22 FFB (in) "Data Filter Feedback Pin", 23 THRES (in) "AGC Threshold Input", 24 3VOUT (out) "3V Reference Output", 25 DATA (out) "Data Output", 26 PDO (out) "Peak Detector Output", 27 PDWN (in) "Power Down Input", 28 CRST2 "External Crystal Connector 2"

## TDA7210V
designator U?
ASK / FSK Single Conversion Receiver, -40 to 85 degC, PG-VQFN-32, Green; Manufacturer: Infineon; PartNumber: TDA7210V; Channel Requirements per Band: Single-Channel; Digital Baseband / Autonomous RX: no; Frequency Band: 434 MHz, 868 MHz; Green: yes; DatasheetVersion: Rev. 1.1; PackageReference: PG-VQFN-32; PackageDescription: 32-Pin Plastic (Green) Very Thin Profile Quad Flat Non Leaded Package, 5.5 x 4.5 mm Body, 0.5 mm Pitch; Supplier 1: Mouser; Supplier Part Number 1: 726-TDA7210V; Supplier 2: Digi-Key; Supplier Part Number 2: TDA7210V-ND; Group: Receiver; Halogen-free: yes; Modulation Type: ASK / FSK; Mounting Technology: Surface Mount; ComponentLink1Description: Manufacturer URL; ComponentLink1URL: http://www.infineon.com/; ComponentLink2Description: Datasheet; ComponentLink2URL: http://www.infineon.com/dgdl/TDA7210V_DS_V1.1.pdf?folderId=db3a3043191a246301192dd3ee2c2ae4&fileId=db3a3043271faefd012776007d8015f4; ComponentLink3Description: Package Specification; ComponentLink3URL: http://www.infineon.com/dgdl/PG-VQFN-32-1%2C-5-Package_Overview.pdf?folderId=db3a304412b91b910112b9a671b10004&fileId=db3a30431936bc4b0119623d9d7b2e46
footprint INF-PG-VQFN-32_N (QFN, 32-Leads, Body 5.5x4.5 mm, Pitch 0.5 mm, IPC Medium Density)
footprint INF-PG-VQFN-32_L (QFN, 32-Leads, Body 5.5x4.5 mm, Pitch 0.5 mm, IPC High Density)
footprint INF-PG-VQFN-32_M (QFN, 32-Leads, Body 5.5x4.5 mm, Pitch 0.5 mm, IPC Low Density)
pins: 1 LNI (in) "LNA Input", 2 TAGC "AGC Time Constant Control", 3 AGND1 (power) "Analogue Ground Return", 4 LNO (out) "LNA Output", 5 VCC1 (power) "5 V Supply", 6 MI (in) "Mixer Input", 7 MIX (in) "Complementary Mixer Input", 8 AGND2 (power) "Analogue Ground Return", 9 FSEL (in) "868/434 MHz Operating  Frequency Selector", 10 IFO (out) "10.7 MHz IF Mixer Output", 11 GNDRF2 (power) "Internal GND Plane connected  to RF-GND", 12 DGND (power) "Digital Ground Return", 13 VDD (power) "5 V Supply Digital", 14 MSEL (in) "ASK/FSK Modulation Format  Selector", 15 CSEL (in) "6.xx or 13.xx MHz Quartz  Selector", 16 LIM (in) "Limiter Input", 17 LIMX (in) "Complementary Limiter Input", 18 SLP (in) "Data Slicer Positive Input", 19 SLN (in) "Data Slicer Negative Input", 20 OPP (in) "OpAmp Noninverting Input", 21 GNDRF3 (power) "Internal GND Plane connected  to RF-GND", 22 FFB (in) "Data Filter Feedback Pin", 23 THRES (in) "AGC Threshold Input", 24 3VOUT (out) "3 V Reference Output", 25 DATA (out) "Data Output", 26 PDO (out) "Peak Detector Output", 27 PDWN (in) "Power Down Input", 28 CRST2 "External Crystal Connector 2", 29 NC "Not connected", 30 CRST1 "External Crystal Connector 1", 31 VCC2 (power) "5 V Supply Analogue", 32 GNDRF1 (power) "Internal GND Plane connected  to RF-GND"

## TDA7255V
designator U?
434 MHz ASK / FSK Wireless Transceiver, -40 to 85 degC, PG-VQFN-40, Green; Manufacturer: Infineon; PartNumber: TDA7255V; Channel Requirements per Band: Single Channel; Frequency Band: 434 MHz; Green: yes; Transmit Power (at 3V): 9 dBm; DatasheetVersion: Rev. 1.1; PackageReference: PG-VQFN-40; PackageDescription: 40-Pin Plastic (Green) Very Thin Profile Quad Flat Non Leaded Package, 5.5 x 6.5 mm Body, 0.5 mm Pitch; Supplier 1: Mouser; Supplier Part Number 1: 726-TDA7255V; Supplier 2: Digi-Key; Supplier Part Number 2: TDA7255V-ND; Group: Transceiver; Halogen-free: yes; Modulation Type: ASK / FSK; Mounting Technology: Surface Mount; ComponentLink1Description: Manufacturer URL; ComponentLink1URL: http://www.infineon.com/; ComponentLink2Description: Datasheet; ComponentLink2URL: http://www.infineon.com/dgdl/TDA7255V_DS_V1.1.pdf?folderId=db3a3043191a246301192dd3ee2c2ae4&fileId=db3a30432a7fedfc012a84f991c92c1a; ComponentLink3Description: Package Specification; ComponentLink3URL: http://www.infineon.com/dgdl/PG-VQFN-40-1%2C-8%2C-11-Package_Overview.pdf?folderId=db3a30431936bc4b01197ad887a81176&fileId=db3a30431936bc4b01197ae90bf0118f
footprint INF-PG-VQFN-40_N (QFN, 40-Leads, Body 6.5x5.5 mm, Pitch 0.5 mm, IPC Medium Density)
footprint INF-PG-VQFN-40_L (QFN, 40-Leads, Body 6.5x5.5 mm, Pitch 0.5 mm, IPC High Density)
footprint INF-PG-VQFN-40_M (QFN, 40-Leads, Body 6.5x5.5 mm, Pitch 0.5 mm, IPC Low Density)
pins: 1 ASKFSK (in) "ASK/FSK-Mode Switch Input High = ASK Low = FSK", 2 RXTX (io) "RX/TX-Mode Switch Input/Output High = RX Low = TX", 3 LNI (in) "RF Input to Differential Low Noise Amplifier (LNA)", 4 LNIX (in) "Complementary RF Input to Differential LNA", 5 GND-PA (power) "Ground Return for Power Amplifier (PA) Driver Stage", 6 PA (oc) "PA Output Stage", 7 VCC1 (power) "Supply for LNA and PA", 8 PDN (out) "Output of the Negative Peak Detector", 9 PDP (out) "Output of the Positive Peak Detector", 10 SLC "Slicer Level for the Data Slicer", 11 VDD (power) "Digital Supply A 10 ohm serial resistor in the VDD supply line is strongly recommended", 12 BUSDTA (io) "Bus Data In/Output", 13 GNDRF2 (power) "Ground Return for RF Except PA", 14 BUSCLK (in) "Bus Clock Input", 15 VSS (power) "Ground for Digital Section", 16 XOUT "Crystal Oscillator Output Can also be used as external reference frequency input", 17 XSWF "FSK Modulation Switch", 18 XIN "Ground for Digital Section", 19 XSWA "ASK Modulation/FSK Center Frequency Switch", 20 XGND (power) "Crystal Oscillator Ground Return", 21 EN (in) "3-Wire Bus Enable Input, Active Low", 22 ~{RESET} (in) "Reset of the Entire System (to Default Values) Active Low", 23 CLKDIV (out) "Clock Output", 24 PWDDD (io) "Power Down Input (Active High), Data Detect Output (Active Low)", 25 DATA (io) "TX Data Input, RX Data Output (RX Powerdown: Pin 25 @ GND)", 26 GNDRF3 (power) "Ground Return for RF except PA", 27 RSSI (out) "RSSI Output", 28 GND (power) "Analog Ground", 29 CQ2X "Pin for External Capacitor Q-channel, stage 2", 30 CQ2 "Pin for External Capacitor Q-channel, stage 2", 31 CI2X "Pin for External Capacitor I-channel, stage 2", 32 CI2 "Pin for External Capacitor I-channel, stage 2", 33 CQ1X "Pin for External Capacitor Q-channel, stage 1", 34 CQ1 "Pin for External Capacitor Q-channel, stage 1", 35 CI1X "Pin for External Capacitor I-channel, stage 1", 36 CI1 "Pin for External Capacitor I-channel, stage 1", 37 VCC (power) "Analog Supply Antiparallel diodes between VCC, VCC1, VDD", 38 BUSMODE (in) "Bus Mode Selection I2C/3 wire bus mode selection", 39 LF "Loop Filter and VCO Control Voltage", 40 GNDRF1 (power) "Ground Return for LNA"

## TDK5100
designator U?
868 / 433 MHz ASK / FSK Transmitter, -40 to 125 degC, PG-TSSOP-16, Green; Manufacturer: Infineon; PartNumber: TDK5100; Channel Requirements per Band: Single Channel; Frequency Band: 434 MHz, 868 MHz; Green: yes; Transmit Power (at 3V): 5 dBm, 2 dBm; DatasheetVersion: Rev. 1.1; PackageReference: PG-TSSOP-16; PackageDescription: 16-Pin Plastic (Green) Thin Shrink Small Outline Package, 5 x 4.4 mm Body, 0.65 mm Pitch; Supplier 1: Mouser; Supplier Part Number 1: 726-TDK5100; Supplier 2: Digi-Key; Supplier Part Number 2: TDK5100INTR-ND; Supplier 3: Digi-Key; Supplier Part Number 3: TDK5100INCT-ND; Supplier 4: Digi-Key; Supplier Part Number 4: TDK5100INDKR-ND; Group: Transmitter; Halogen-free: yes; Modulation Type: ASK / FSK; Mounting Technology: Surface Mount; ComponentLink1Description: Manufacturer URL; ComponentLink1URL: http://www.infineon.com/; ComponentLink2Description: Datasheet; ComponentLink2URL: http://www.infineon.com/dgdl/TDK_5100_V1.1_datasheet.pdf?folderId=db3a30431689f4420116a096e1db033e&fileId=db3a30431936bc4b011937a0ede7594e; ComponentLink3Description: Package Specification; ComponentLink3URL: http://www.infineon.com/cms/packages/SMD_-_Surface_Mounted_Devices/P-PG-TSSOP/P-PG-TSSOP-16-1.html?__locale=en
footprint INF-PG-TSSOP-16_N (SOP, 16-Leads, Body 5x4.4 mm, Pitch 0.65 mm, IPC Medium Density, IPC Medium Density)
footprint INF-PG-TSSOP-16_L (SOP, 16-Leads, Body 5x4.4 mm, Pitch 0.65 mm, IPC High Density, IPC High Density)
footprint INF-PG-TSSOP-16_M (SOP, 16-Leads, Body 5x4.4 mm, Pitch 0.65 mm, IPC High Density, IPC Low Density)
pins: 1 PDWN (in) "Disable pin for the complete transmitter circuit. A logic low (PDWN < 0.7 V)  turns off all  transmitter functions. A logic high (PDWN > 1.5 V) gives access to  all transmitter functions. PDWN input will be pulled up by 40 (See Datasheet)", 2 LPD (out) "This pin provides an output indicating the  low-voltage state of the supply voltage VS.  VS < 2.15 V will set  LPD to the low-state. An internal pull-up current of 40 µA gives the  output a high-state at supply voltages (See Datasheet)", 3 VS (power) "This pin is the positive supply of the transmitter electronics. An RF bypass capacitor should be connected directly to this pin and returned to GND (pin 5) as short as possible.", 4 LF "Output of the charge pump and input of the  VCO control voltage. The loop bandwidth of the PLL is 150 kHz when only the internal loop filter is used. The loop bandwidth may be reduced by applying an external RC network (See Datasheet)", 5 GND (power) "General ground connection.", 6 ASKDTA (in) "Digital amplitude modulation can be  imparted to the Power Amplifier through this  pin. A logic high (ASKDTA > 1.5 V or open)  enables the Power Amplifier.  A logic low (ASKDTA < 0.5 V)  disables the Power Amplifier.", 7 FSKDTA (in) "Digital frequency modulation can be  imparted to the Xtal Oscillator by this pin.  The VCO-frequency varies in accordance to  the frequency of the reference oscillator. A logic high (FSKDTA > 1.5V or open)  sets the FSK (See Datasheet)", 8 CLKOUT (out) "Clock output to supply an external device.  An external pull-up resistor has to be added   in accordance to the driving requirements of  the external device.  A clock frequency of 3.39 MHz is selected  by a logic low at (See Datasheet)", 9 CLKDIV (in) "This pin is used to select the desired clock  division rate for the CLKOUT signal.  A logic low (CLKDIV < 0.2 V) applied to this  pin selects the 3.39 MHz output signal at  CLKOUT (pin 8).  A logic high (CLKDIV open) applied (See Datasheet)", 10 COSC "This pin is connected to the reference oscillator circuit.  The reference oscillator is working as a negative impedance converter. It presents a  negative resistance in series to an inductance at the COSC pin.", 11 FSKOUT (hiz) "This pin is connected to a switch to FSKGND (pin 12).  The switch is closed when the signal at  FSKDTA (pin 7) is in a logic low state.  The switch is open when the signal at  FSKDTA (pin 7) is in a logic high state. FSKOUT (See Datasheet)", 12 FSKGND (power) "Ground connection for FSK modulation output  FSKOUT.", 13 PAGND (power) "Ground connection of the power amplifier. The RF ground return path of the power  amplifier output PAOUT (pin 14) has to be  concentrated to this pin.", 14 PAOUT (oc) "RF output pin of the transmitter.  A DC path to the positive supply VS has to  be supplied by the antenna matching network.", 15 FSEL (in) "This pin is used to select the desired transmitter frequency. A logic low (FSEL < 0.5 V) applied to this pin  sets the transmitter to the 433 MHz frequency range. A logic high (FSEL open) applied to this pin  sets the (See Datasheet)", 16 CSEL (in) "This pin is used to select the desired reference frequency. A logic low (CSEL < 0.2 V) applied to this pin  sets the internal frequency divider to accept  a reference frequency of 6.78 MHz.  A logic high (CSEL open) applied (See Datasheet)"